# Altium footprint library AndreiLib.PcbLib: 25 footprints (part 2 of 2)
Each footprint in its own frame and in the unit in brackets; x right, y up, seen from the top. Pads: shape width x height; smd on the part's side, far side on the other; paste and mask are expansions set on the pad; w line width, h text height; cw(c..) or ccw(c..) is an arc to the next point about the centre after c.
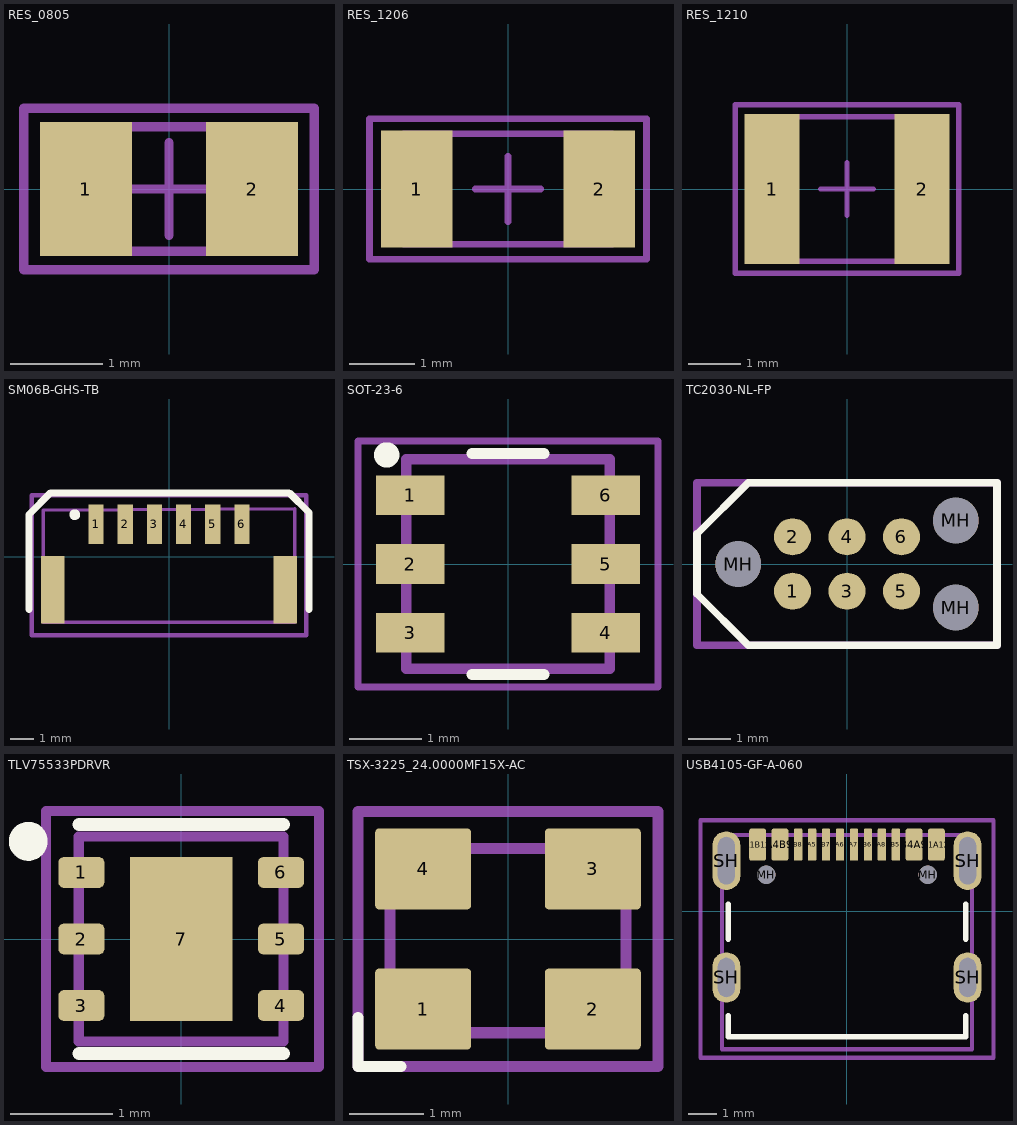
[diagram p1: the footprints below, top view; thin cyan lines are the x and y axes]

## RES_0805 [mm] "Chip Resistor, 2-Leads, Body 2.00x1.25mm, IPC Medium Density"
height 0.6
pads (2):
  rect 1x1.45 smd mask+0.05: 1(-0.9,0) 2(0.9,0)
Top Assembly:
  lines w0.1: -1.05,-0.675 1.05,-0.675 1.05,0.675 -1.05,0.675 -1.05,-0.675
Top Courtyard:
  lines w0.1: -1.574,-0.874 1.574,-0.874 1.574,0.874 -1.574,0.874 -1.574,-0.874
Top Component Center:
  lines w0.1: -0.5,0 0.5,0 ; 0,-0.5 0,0.5
3D body "RES_0805.step": height 0.6, standoff 0, extent -1.05,-0.675 1.05,0.675

## RES_1206 [mm] "Chip Resistor, 2-Leads, Body 3.10x1.60mm, IPC Medium Density"
height 0.65
pads (2):
  rect 1.1x1.8 smd mask+0.05: 1(-1.4,0) 2(1.4,0)
Top Assembly:
  lines w0.1: -1.6,-0.85 1.6,-0.85 1.6,0.85 -1.6,0.85 -1.6,-0.85
Top Courtyard:
  lines w0.1: -2.124,-1.075 2.124,-1.075 2.124,1.075 -2.124,1.075 -2.124,-1.075
Top Component Center:
  lines w0.1: -0.5,0 0.5,0 ; 0,-0.5 0,0.5
3D body "RES_1206.step": height 0.65, standoff 0, extent -1.6,-0.85 1.6,0.85

## RES_1210 [mm] "Chip Resistor, 2-Leads, Body 3.10x2.60mm, IPC Medium Density"
height 0.65
pads (2):
  rect 1.05x2.85 smd mask+0.05: 1(-1.425,0) 2(1.425,0)
Top Assembly:
  lines w0.1: -1.6,-1.375 -1.6,1.375 1.6,1.375 1.6,-1.375 -1.6,-1.375
Top Courtyard:
  lines w0.1: -2.124,-1.599 -2.124,1.599 2.124,1.599 2.124,-1.599 -2.124,-1.599
Top Component Center:
  lines w0.1: -0.5,0 0.5,0 ; 0,-0.5 0,0.5
3D body "RES_1210.step": height 0.65, standoff 0, extent -1.6,-1.375 1.6,1.375

## SM06B-GHS-TB [mm]
pads (8):
  rect 0.65x1.7 smd mask+0.05: 1(-3.125,1.4) 2(-1.875,1.4) 3(-0.625,1.4) 4(0.625,1.4) 5(1.875,1.4) 6(3.125,1.4)
  rect 1x2.9 smd mask+0.05: ""(-4.975,-1.4) ""(4.975,-1.4)
Top Overlay:
  circle w0.254: c-4.035,1.813 r0.103
  lines w0.3: -6,-2.25 -6,1.823 -5.073,2.75 5.149,2.75 6,1.899 6,-2.25
Top Assembly:
  lines w0.15: -5.385,-2.794 5.385,-2.794 5.385,2.057 -5.385,2.006 -5.385,-2.794
Top Courtyard:
  lines w0.2: -5.875,-3.35 -5.875,-1.35 -5.875,2.65 5.875,2.65 5.875,-3.35 -5.875,-3.35
Mechanical 13:
  circle w0.25: c-3.125,1.75 r0.1
3D body "SM06B-GHS-TB.STEP": height 4.26, standoff 0.01, extent -5.375,-2.8 5.375,2.05

## SOT-23-6 [mm] "SOT23, 6-Leads, Body 2.90x2.80mm, Pitch 0.95mm, IPC Medium Density"
height 1
pads (6):
  rect 0.95x0.55 smd mask+0.05: 1(-1.35,0.95) 2(-1.35,0) 3(-1.35,-0.95) 4(1.35,-0.95) 5(1.35,0) 6(1.35,0.95)
Top Overlay:
  circle w0.25: c-1.677,1.509 r0.05
  lines w0.15: -0.5,-1.53 0.5,-1.53 ; -0.5,1.53 0.5,1.53
Top Assembly:
  lines w0.15: -1.408,-1.45 1.408,-1.45 1.408,1.45 -1.408,1.45 -1.408,-1.45
Top Courtyard:
  lines w0.1: -2.075,-1.7 2.075,-1.7 2.075,1.7 -2.075,1.7 -2.075,-1.7
3D body "SOT-23-6.step": height 1, standoff 0, extent -1.4,-1.45 1.4,1.45

## TC2030-NL-FP [mil]
pads (9):
  round 33.98 smd paste-16.99 mask+4: 1(-50,-25) 2(-50,25) 3(0,-25) 4(0,25) 5(50,-25) 6(50,25)
  round 42.01 hole 42.01 unplated: MH(-100,0) MH(100,-40) MH(100,40)
Top Overlay:
  lines w6.89: -137.8,-27.56 -137.8,27.56 -90.55,74.8 137.8,74.8 137.8,-74.8 -90.55,-74.8 -137.8,-27.56
Top Courtyard:
  lines w6.89: -137.8,-74.8 137.8,-74.8 137.8,74.8 -137.8,74.8 -137.8,-74.8

## TLV75533PDRVR [mm]
pads (7):
  rrect35% 0.45x0.3 smd mask+0.05: 1(-0.975,0.65) 2(-0.975,0) 3(-0.975,-0.65) 4(0.975,-0.65) 5(0.975,0) 6(0.975,0.65)
  rect 1x1.6 smd paste-2 mask+0.05: 7(0,0)
Top Overlay:
  circle w0.2: c-1.494,0.954 r0.09
  lines w0.127: -1,-1.12 1,-1.12 ; -1,1.12 1,1.12
Top Paste:
  region: 0.5,0.1 -0.5,0.1 -0.5,0.8 0.5,0.8
  region: 0.5,-0.8 -0.5,-0.8 -0.5,-0.1 0.5,-0.1
Top Assembly:
  lines w0.1: -1,-1 1,-1 1,1 -1,1 -1,-1
Top Courtyard:
  lines w0.1: -1.321,-1.25 1.346,-1.25 1.346,1.25 -1.321,1.25 -1.321,-1.25
3D body "step_temp.STEP": height 0.8, standoff 0, extent -1,-1 1,1

## TSX-3225_24.0000MF15X-AC [mm]
pads (4):
  rrect10% 1.3x1.1 smd mask+0.05: 1(-1.15,-0.95) 2(1.15,-0.95) 3(1.15,0.95) 4(-1.15,0.95)
Top Overlay:
  lines w0.15: -2.032,-1.067 -2.032,-1.727 -1.448,-1.727
Top Assembly:
  lines w0.15: -1.6,-1.27 -1.6,1.225 1.6,1.225 1.6,-1.27 -1.6,-1.27
Top Courtyard:
  lines w0.15: -2.032,-1.727 2.032,-1.727 2.032,1.727 -2.032,1.727 -2.032,-1.727
3D body "Y3225.step": height 0.61, standoff 0, extent -1.6,-1.275 1.6,1.225

## USB4105-GF-A-060 [mm]
pads (18):
  rrect25% 0.6x1.15 smd mask+0.05: A1B12(-3.2,2.378) A4B9(-2.4,2.378) B1A12(3.2,2.378) B4A9(2.4,2.378)
  rrect25% 0.3x1.15 smd mask+0.05: A5(-1.25,2.378) A6(-0.25,2.378) A7(0.25,2.378) A8(1.25,2.378) B5(1.75,2.378) B6(0.75,2.378) B7(-0.75,2.378) B8(-1.75,2.378)
  round 0.65 hole 0.65 unplated mask+0.05: MH(-2.89,1.303) MH(2.89,1.303)
  oval 1x1.8 hole 0.6 slot 1.4 at 90 deg: SH(-4.32,-2.377) SH(4.32,-2.377)
  oval 1x2.1 hole 0.6 slot 1.7 at 90 deg: SH(-4.32,1.803) SH(4.32,1.803)
Top Overlay:
  lines w0.2: -4.25,-3.75 -4.25,-4.5 4.25,-4.5 4.25,-3.75 ; -4.25,-1 -4.25,0.25 ; 4.25,-1 4.25,0.25
Top Assembly:
  lines w0.15: -4.475,-4.95 4.475,-4.95 4.475,2.725 -4.475,2.725 -4.475,-4.95
Top Courtyard:
  lines w0.15: -5.25,-5.25 -5.25,-3 -5.25,3.25 5.25,3.25 5.25,-5.25 -5.25,-5.25
3D body "USB4105-GF-A-060.stp": height 3.27, standoff -0.61, extent -4.47,-4.972 4.47,2.728